# Altium schematic symbol library T-connect Male.Schlib: 1 symbol
Pins are listed as number, name and electrical type; pins without a type are passive.

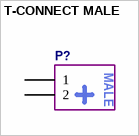
[diagram p0: symbol T-CONNECT MALE]

## T-CONNECT MALE
designator P?  (value not drawn)
pins: 1, 2
text: MALE